# EAGLE library part LSM6DSOX (library SIH26113_Maternity_Assist_Belt)
ST LSM6DSOXTR 6-axis IMU (3-axis accel + 3-axis gyro), LGA-14L. Pin map from LSM6DSOX DS12814 Rev.4 Table 1.
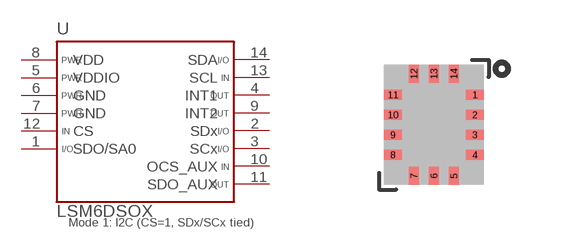
[diagram p3: symbol with the pads of LGA-14L-2.5X3.0; footprint LGA-14L-2.5X3.0]

Designator prefix U

## LSM6DSOX  [LGA-14L-2.5X3.0]
1  SDO/SA0
2  SDx
3  SCx
4  INT1  out
5  VDDIO  pwr
6  GND  pwr
7  GND  pwr
8  VDD  pwr
9  INT2  out
10  OCS_AUX  in
11  SDO_AUX  out
12  CS  in
13  SCL  in
14  SDA

## Footprint LGA-14L-2.5X3.0 (pad centres in mm)
ST LGA-14L 2.5x3.0x0.86 mm. Body/pad geometry from LSM6DSOX DS12814 Rev.4 Fig.28 (14 pads 0.475x0.25 mm, 0.5 mm pitch, 1.5/1.0 mm row spans). Lands enlarged to 0.50x0.28 mm per IPC-7351B Nominal. Drawn in board top view (package bottom view mirrored).
smd 0.45 x 0.25: 1 1.025,0.75; 2 1.025,0.25; 3 1.025,-0.25; 4 1.025,-0.75; 8 -1.025,-0.75; 9 -1.025,-0.25; 10 -1.025,0.25; 11 -1.025,0.75
smd 0.25 x 0.45: 5 0.5,-1.275; 6 0,-1.275; 7 -0.5,-1.275; 12 -0.5,1.275; 13 0,1.275; 14 0.5,1.275